# EAGLE library part YM3012 (library A-14732-40023)
Yamaha 3012 2-channel serial input floating DAC
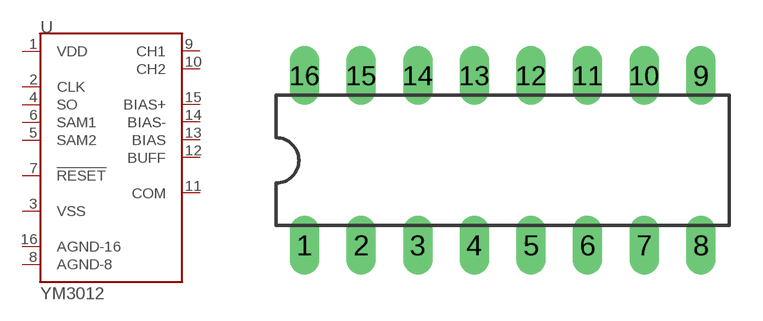
[diagram p5: symbol with the pads of DIP16N; footprint DIP16N]

Designator prefix U

## YM3012  [DIP16N]
1  VDD  pas
2  CLK  pas
3  VSS  pas
4  SO  pas
5  SAM2  pas
6  SAM1  pas
7  !RESET  pas
8  AGND-8  pas
9  CH1  pas
10  CH2  pas
11  COM  pas
12  BUFF  pas
13  BIAS  pas
14  BIAS-  pas
15  BIAS+  pas
16  AGND-16  pas

## Footprint DIP16N (pad centres in mm)
Dual In Line Package 16 pin narrow
drill 0.813 long: 1 -8.89,-3.81; 2 -6.35,-3.81; 3 -3.81,-3.81; 4 -1.27,-3.81; 5 1.27,-3.81; 6 3.81,-3.81; 7 6.35,-3.81; 8 8.89,-3.81; 9 8.89,3.81; 10 6.35,3.81; 11 3.81,3.81; 12 1.27,3.81; 13 -1.27,3.81; 14 -3.81,3.81; 15 -6.35,3.81; 16 -8.89,3.81